# EAGLE library part MCP4011*/? (library MCP401x)
The MCP4011/2/3/4 devices are volatile, 6-bit Digital Potentiometers that can be configured as either a potentiometer or rheostat. The wiper setting is controlled through a simple Up/Down (U/D) serial interface.
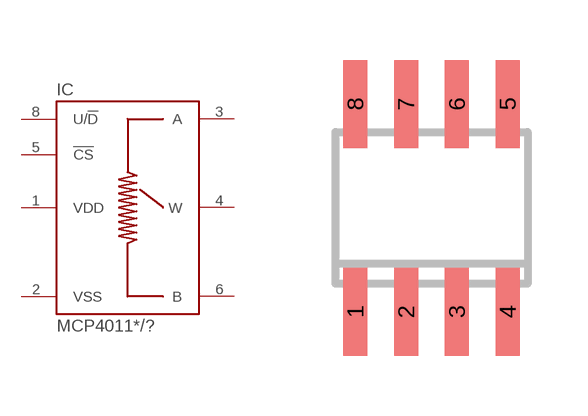
[diagram p0: symbol with the pads of SO-8; footprint SO-8]

Designator prefix IC

## MCP4011-103E/SN, MCP4011-202E/SN, MCP4011-502E/SN, MCP4011-503E/SN  [SO-8]
1  VDD
2  VSS
3  A
4  W
5  !CS!
6  B
8  U/!D!

## Footprint SO-8 (pad centres in mm)
150-mil body
smd 0.6 x 2.2: 1 -1.905,-2.6; 2 -0.635,-2.6; 3 0.635,-2.6; 4 1.905,-2.6; 5 1.905,2.6; 6 0.635,2.6; 7 -0.635,2.6; 8 -1.905,2.6